# EAGLE library part ESP32S3DEVKITC-1 (library FaBo-MPU)
ESP32-S3 32bit Xtensa dual-core 240MHz WiFi IEEE 802.11 b/g/n 2.4GHz BLE 5 Mesh 512KB SRAM(16KB SRAM in RTC) 384 KB ROM 45GPIOs,4 *SPI,3*UART,2*I2C 14*touch,2*I2S,RMT,+ED,PWM,USB-OTG 2 * 12bit ADC,1*LCD Interface,DVP
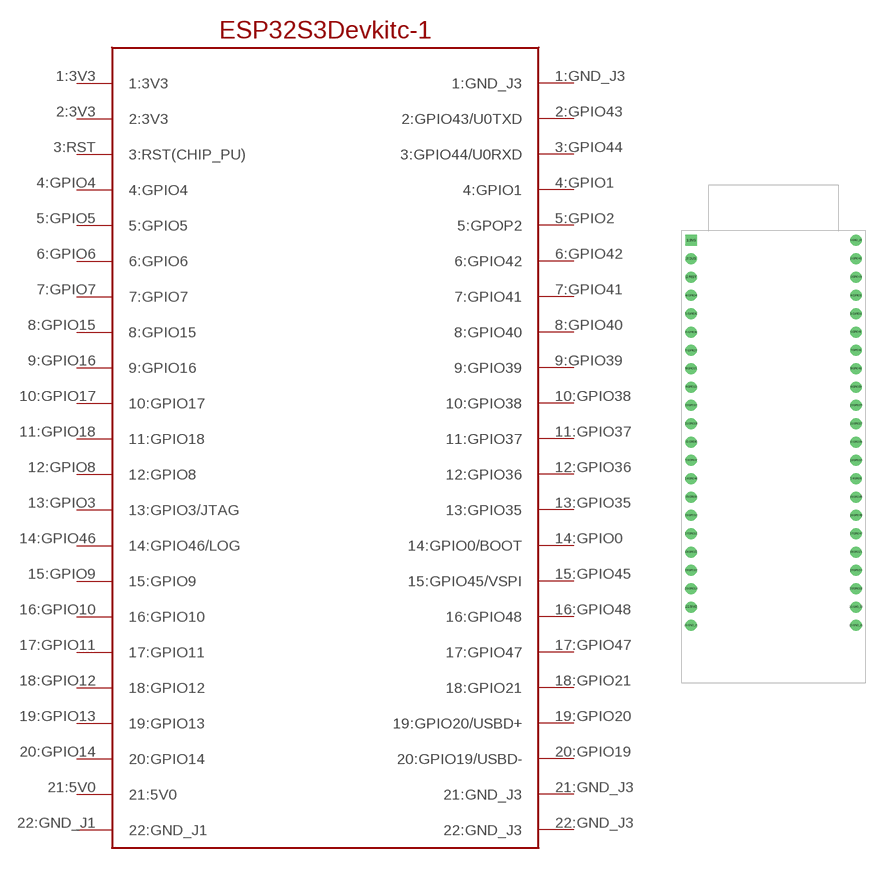
[diagram p15: symbol with the pads of ESP32S3DEVKITC-1; footprint ESP32S3DEVKITC-1]

Designator prefix -

## ESP32S3DEVKITC-1  [ESP32S3DEVKITC-1]
1:3V3  1:3V3  pwr
1:GND_J3  1:GND_J3
2:3V3  2:3V3  pwr
2:GPIO43  2:GPIO43/U0TXD
3:GPIO44  3:GPIO44/U0RXD
3:RST  3:RST(CHIP_PU)  in
4:GPIO1  4:GPIO1
4:GPIO4  4:GPIO4
5:GPIO2  5:GPOP2
5:GPIO5  5:GPIO5
6:GPIO6  6:GPIO6
6:GPIO42  6:GPIO42
7:GPIO7  7:GPIO7
7:GPIO41  7:GPIO41
8:GPIO15  8:GPIO15
8:GPIO40  8:GPIO40
9:GPIO16  9:GPIO16
9:GPIO39  9:GPIO39
10:GPIO17  10:GPIO17
10:GPIO38  10:GPIO38
11:GPIO18  11:GPIO18
11:GPIO37  11:GPIO37
12:GPIO8  12:GPIO8
12:GPIO36  12:GPIO36
13:GPIO3  13:GPIO3/JTAG  in
13:GPIO35  13:GPIO35
14:GPIO0  14:GPIO0/BOOT  in
14:GPIO46  14:GPIO46/LOG  in
15:GPIO9  15:GPIO9
15:GPIO45  15:GPIO45/VSPI  sup
16:GPIO10  16:GPIO10
16:GPIO48  16:GPIO48
17:GPIO11  17:GPIO11
17:GPIO47  17:GPIO47
18:GPIO12  18:GPIO12
18:GPIO21  18:GPIO21
19:GPIO13  19:GPIO13
19:GPIO20  19:GPIO20/USBD+
20:GPIO14  20:GPIO14
20:GPIO19  20:GPIO19/USBD-
21:5V0  21:5V0  pwr
21:GND_J3  21:GND_J3  pwr
22:GND_J1  22:GND_J1  pwr
22:GND_J3  22:GND_J3  pwr

## Footprint ESP32S3DEVKITC-1 (pad centres in mm)
drill 1.02 square: 1:3V3 -11.43,26.67
drill 1.02: 1:GND_J3 11.43,26.67; 2:3V3 -11.43,24.13; 2:GPIO43 11.43,24.13; 3:GPIO44 11.43,21.59; 3:RST -11.43,21.59; 4:GPIO1 11.43,19.05; 4:GPIO4 -11.43,19.05; 5:GPIO2 11.43,16.51; 5:GPIO5 -11.43,16.51; 6:GPIO6 -11.43,13.97; 6:GPIO42 11.43,13.97; 7:GPIO7 -11.43,11.43; 7:GPIO41 11.43,11.43; 8:GPIO15 -11.43,8.89; 8:GPIO40 11.43,8.89; 9:GPIO16 -11.43,6.35; 9:GPIO39 11.43,6.35; 10:GPIO17 -11.43,3.81; 10:GPIO38 11.43,3.81; 11:GPIO18 -11.43,1.27; 11:GPIO37 11.43,1.27; 12:GPIO8 -11.43,-1.27; 12:GPIO36 11.43,-1.27; 13:GPIO3 -11.43,-3.81; 13:GPIO35 11.43,-3.81; 14:GPIO0 11.43,-6.35; 14:GPIO46 -11.43,-6.35; 15:GPIO9 -11.43,-8.89; 15:GPIO45 11.43,-8.89; 16:GPIO10 -11.43,-11.43; 16:GPIO48 11.43,-11.43; 17:GPIO11 -11.43,-13.97; 17:GPIO47 11.43,-13.97; 18:GPIO12 -11.43,-16.51; 18:GPIO21 11.43,-16.51; 19:GPIO13 -11.43,-19.05; 19:GPIO20 11.43,-19.05; 20:GPIO14 -11.43,-21.59; 20:GPIO19 11.43,-21.59; 21:5V0 -11.43,-24.13; 21:GND_J3 11.43,-24.13; 22:GND_J1 -11.43,-26.67; 22:GND_J3 11.43,-26.67